# Altium schematic symbol library J0011D01BNL.SchLib: 1 symbol
Pins are listed as number, name and electrical type; pins without a type are passive.

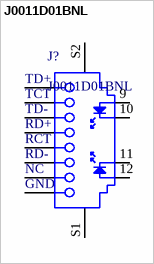
[diagram p0: symbol J0011D01BNL]

## J0011D01BNL
designator J?
CONN MAGJACK 1PORT 100 BASE-TX; Manufacturer: Pulse; Number of Contacts: 8; Shielding: Shielded; Gender: Female; Current Rating: 8mA; Connector Type: RJ45; Number of Ports: 1; Direction: Down; Number of Cores per Jack: 4; Pitch: 2.54mm; Supplier: Avnet; Supplier Part Number: J0011D01BNL; Manufacturer Part Number: J0011D01BNL; RoHS: Yes; Category: Modular / Ethernet Connectors; Stock: 870; Pricing: 330=5.61455, 390=5.49838, 720=5.38222, 1650=5.26606, 3300=5.14989, 16500=5.03373, 33000=4.93693 (USD); Mounting Technology: Through Hole; Contact Plating: Gold; Contact Material: Bronze; Color: Green,Yellow; Housing Material: Thermoplastic; Min Operating Temperature: 0°C; Max Operating Temperature: 70°C; Termination: Solder; Orientation: Right Angle; Package Quantity: 30; Number of Rows: 1; Packaging: Tray; Number of Positions Loaded: 8; Series: PULSEJACK™ J0; Length: 16.26mm; Depth: 21.59mm; Radiation Hardening: No; Lead Free: Lead Free; RoHS Compliant: Yes; ComponentLink1URL: https://datasheet.ciiva.com/3138/+j403-3138718.pdf?src-supplier=Avnet; ComponentLink1Description: https://datasheet.ciiva.com/3138/+j403-3138718.pdf?src-supplier=Avnet; Supplier 1: Avnet; Supplier Part Number 1: J0011D01BNL
footprint J0011D01BNL
pins: 1 TD+, 2 TCT, 3 TD-, 4 RD+, 5 RCT, 6 RD-, 7 NC, 8 GND, 9, 10, 11, 12, S1, S2